# Altium schematic symbol library MyLibrary.SchLib: 320 symbols (part 4 of 7)
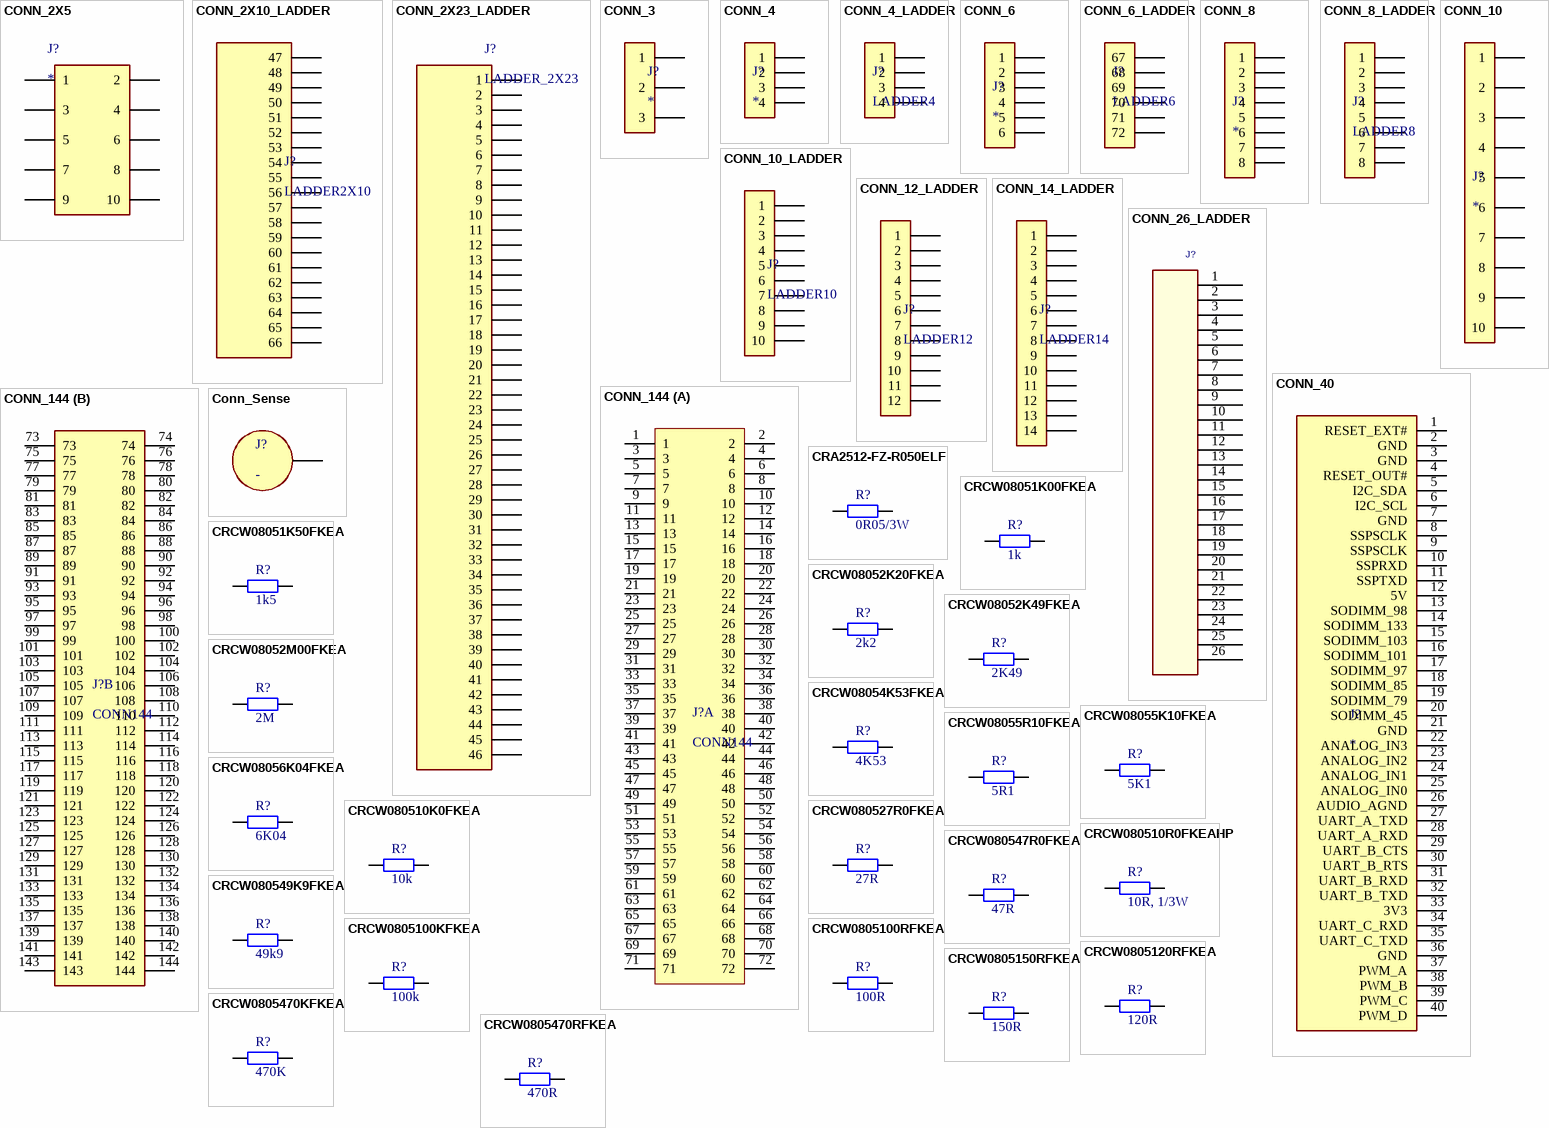
[diagram p11: symbols CONN_2X5 to CRCW0805470RFKEA]

## CRCW0805120RFKEA
designator R?, comment 120R
RES 120R 0805 0.125W 1%; Manufacturer: Vishay; Manufacturer Part Number: CRCW0805120RFKEA; Power Rating: 125mW; Voltage Rating: 150V; Temperature Coefficient: 100ppm/°C; Supplier 1: Farnell; Stock 1: 0; Pricing 1: 5000=0.0105 (CHF); Mount: Surface Mount; Package: RESC2012X60N; Weight: 0.000194oz; Case Code (Imperial): 0805; Case Code (Metric): 2012; Contact Plating: Tin; Min Operating Temperature: -55°C; Max Operating Temperature: 155°C; Resistance: 120R; Tolerance: 1%; Packaging: Tape and Reel; Package Quantity: 10; Composition: Thick Film; Number of Terminations: 2; Military Standard: Not; Termination: SMD/SMT; Max Power Dissipation: 125mW; Voltage Rating (DC): 150V; Features: Automotive AEC-Q200; Length: 2mm; Height: 0.45mm; Width: 1.25mm; Depth: 1.25mm; Radiation Hardening: No; REACH SVHC: Unknown; Lead Free: Lead Free; ComponentLink1URL: http://www.vishay.com/docs/20035/dcrcwe3.pdf; ComponentLink1Description: Datasheet; Supplier Part Number 1: 2123011; Type: SMD
footprint R0805
footprint RESC2012X05N (Chip Resistor, 2-Leads, Body 2.05x1.25mm, IPC Medium Density)
pins: 1, 2

## CRCW0805150RFKEA
designator R?, comment 150R
RES 150R 0805 0.125W 1%; Manufacturer: VISHAY; Manufacturer Part Number: CRCW0805150RFKEA; Resistance: 150; Resistor Case Style: 0805 [2012 Metric]; Power Rating: 125 mW; Product Range: CRCW Series; Resistor Element Material: Thick Film; Temperature Coefficient: ± 100; Automotive Qualification Standard: AEC-Q200; No. of Pins: 2; Resistor Mounting: Surface Mount Device<!--FANDB--><div class="features-and-benefits-container"><div class="features-and-benefits-description"><span class="features-benefits-value">The Vishay D/CRCW e3 series are standard thick film chip resistors. The resistance range includes E96 and E24 decade values from 1ohm to 10Mohm. CRCW e3 series resistors have a pure tin solder contacts on the Ni barrier layer that provides compatibility with reflow soldering process.</span></div><div class="features-and-benefits-list"><ul class="features-and-benefits-list-list"><li class="features-and-benefits-list-item">Automotive grade AEC-Q200 qualified</li><li class="features-and-benefits-list-item">EIA 0402, 0603, 0805, 1206, 1210, 1218, 2010, 2512 standard case sizes available</li><li class="features-and-benefits-list-item">Stability &Delta; .PCBChecked: BP; Supplier 1: Farnell; RoHS: Y-EX; Stock 1: 2559; Pricing 1: 10=0.0168, 100=0.0126, 500=0.0082, 1000=0.0072, 2500=0.0063 (GBP); Voltage Rating: 150; Resistance Tolerance: ± 1%; Packaging: Cut Tape; MSL: MSL 1 - Unlimited; Operating Temperature Max: 155; Operating Temperature Min: -55; Operating Temperature Range: -55°C to +155; ComponentLink1URL: http://www.farnell.com/datasheets/2111203.pdf; ComponentLink1Description: Datasheet; Supplier Part Number 1: 1469877; Category: Resistors; Package: RESC2012X60N; Type: SMD; .SCHChecked: BP; Tolerance: 1%
footprint R0805
footprint RESC2012X05N (Chip Resistor, 2-Leads, Body 2.05x1.25mm, IPC Medium Density)
pins: 1, 2

## CRCW0805470KFKEA
designator R?, comment 470K
RES 470K 0805 0.125W 1%; Manufacturer: Vishay; Manufacturer Part Number: CRCW0805470KFKEA; Resistance: 470kR; Power Rating: 125mW; Voltage Rating: 150V; Temperature Coefficient: 100ppm/°C; Supplier 1: Farnell; RoHS: Yes; Stock 1: 46753; Pricing 1: 10 = 0.20000, 100 = 0.15300, 500 = 0.11100, 1000 = 0.09160, 2500 = 0.07200 (DKK); Case/Package: 0805; Number of Pins: 2; Weight: 0.000194oz; Case Code (Metric): 2012; Case Code (Imperial): 0805; Contact Plating: Tin; Min Operating Temperature: -55°C; Max Operating Temperature: 155°C; Tolerance: 1%; Packaging: Tape and Reel; Package Quantity: 10; Composition: Thick Film; Number of Terminations: 2; Termination: SMD/SMT; Military Standard: Not; Max Power Dissipation: 125mW; Voltage Rating (DC): 150V; Features: Automotive AEC-Q200; Length: 2mm; Height: 0.45mm; Width: 0.049inch; Depth: 1.25mm; Radiation Hardening: No; REACH SVHC: Unknown; Lead Free: Lead Free; ComponentLink1URL: https://datasheet.ciiva.com/11809/0900766b80d98b26-11809163.pdf?src-supplier=RSComponents; ComponentLink1Description: Datasheet; Supplier Part Number 1: 1653006; Type: 470K; Package: RESC2012X60N
footprint R0805
footprint RESC2012X05N (Chip Resistor, 2-Leads, Body 2.05x1.25mm, IPC Medium Density)
pins: 1, 2

## CRCW0805470RFKEA
designator R?, comment 470R
RES 470R 0805 0.125W 1%; Manufacturer: VISHAY; Manufacturer Part Number: CRCW0805470RFKEA; Resistance: 470; Voltage Rating: 150; Resistor Case Style: 0805 [2012 Metric]; Power Rating: 125; Product Range: CRCW Series; Resistor Element Material: Thick Film; Temperature Coefficient: ± 100; Automotive Qualification Standard: AEC-Q200; Resistor Mounting: Surface Mount Device<!--FANDB--><div class="features-and-benefits-container"><div class="features-and-benefits-description"><span class="features-benefits-value">The Vishay D/CRCW e3 series are standard thick film chip resistors. The resistance range includes E96 and E24 decade values from 1ohm to 10Mohm. CRCW e3 series resistors have a pure tin solder contacts on the Ni barrier layer that provides compatibility with reflow soldering process.</span></div><div class="features-and-benefits-list"><ul class="features-and-benefits-list-list"><li class="features-and-benefits-list-item">Automotive grade AEC-Q200 qualified</li><li class="features-and-benefits-list-item">EIA 0402, 0603, 0805, 1206, 1210, 1218, 2010, 2512 standard case sizes available</li><li class="features-and-benefits-list-item">Stability &Delta; .PCBChecked: BP; Supplier 1: Farnell; RoHS: Y-EX; Stock 1: 24871; Pricing 1: 10=0.0223, 100=0.0123, 500=0.0092, 1000=0.007, 2500=0.0062 (GBP); Resistance Tolerance: ± 1%; Packaging: Cut Tape; MSL: MSL 1 - Unlimited; ComponentLink1URL: http://www.farnell.com/datasheets/2111203.pdf; ComponentLink1Description: Datasheet; Supplier Part Number 1: 1469932; Category: Resistors; Package: RESC2012X60N; Type: SMD; .SCHChecked: BP; Tolerance: 1%
footprint R0805
footprint RESC2012X05N (Chip Resistor, 2-Leads, Body 2.05x1.25mm, IPC Medium Density)
pins: 1, 2

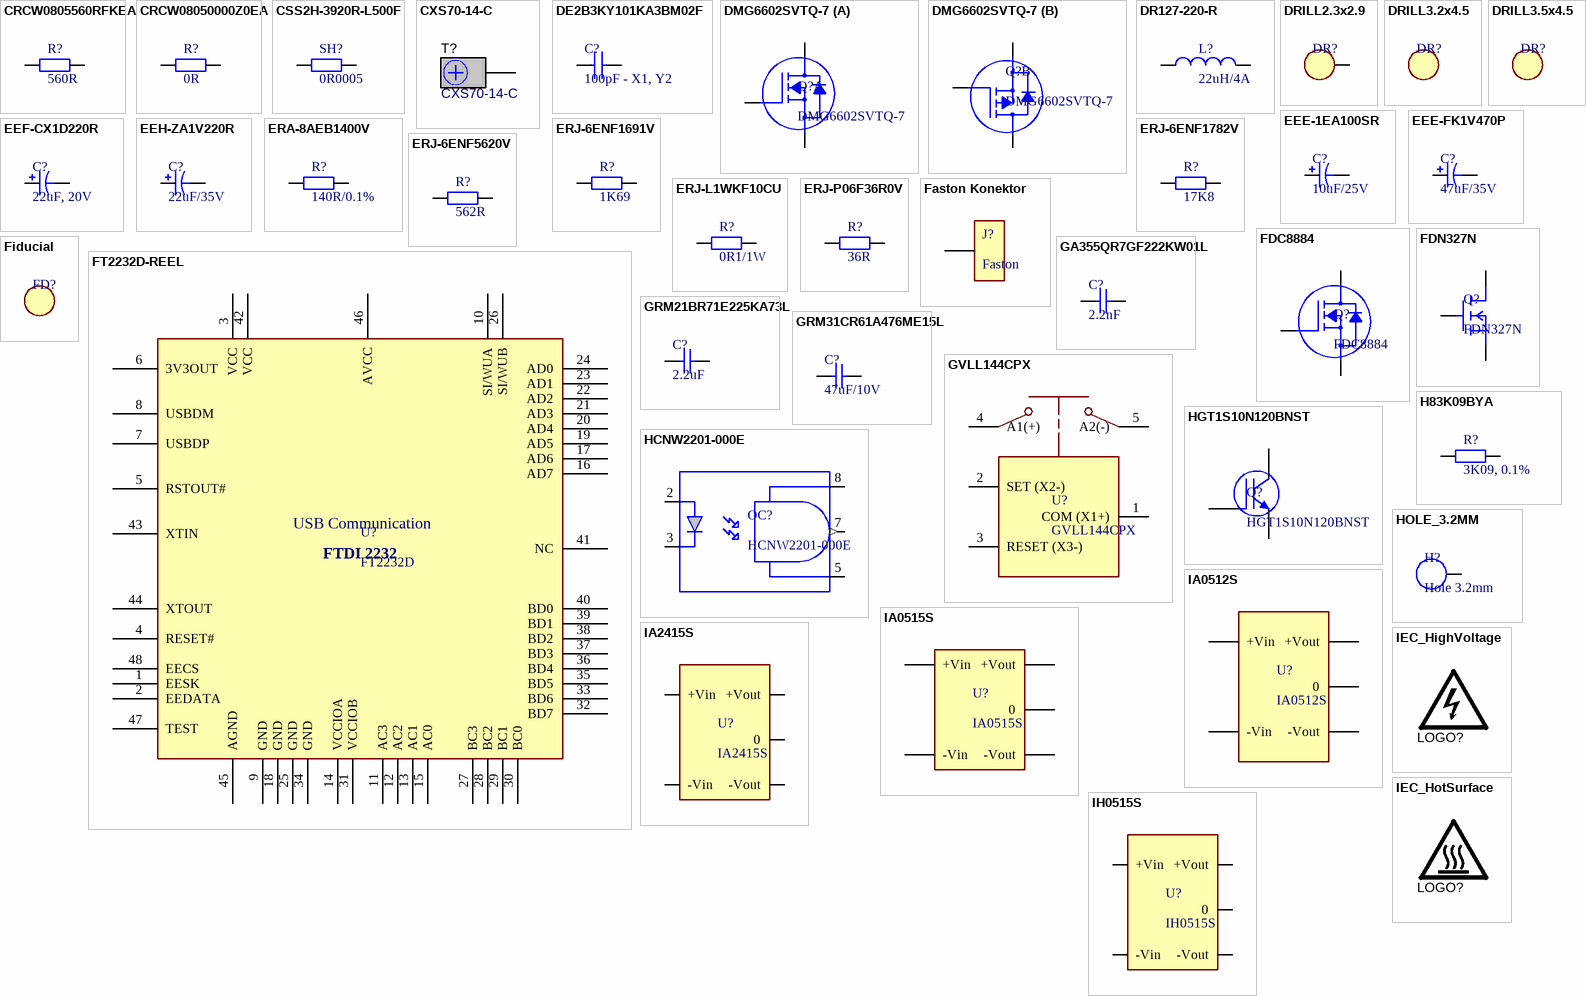
[diagram p4: symbols CRCW0805560RFKEA to IH0515S]

## CRCW0805560RFKEA
designator R?, comment 560R
RES 560R 0805 0.125W 1%; Manufacturer: Vishay; Manufacturer Part Number: CRCW0805560RFKEA; Temperature Coefficient: 100ppm/°C; Power Rating: 125mW; Voltage Rating: 150V; Supplier 1: Future Electronics; RoHS: Yes; Stock 1: 10000; Pricing 1: 5000 = 0.01060, 25000 = 0.00950, 70000 = 0.00900 (USD); Package: RESC2012X60N; Number of Pins: 2; Weight: 0.000194oz; Contact Plating: Tin; Case Code (Metric): 2012; Case Code (Imperial): 0805; Min Operating Temperature: -55°C; Max Operating Temperature: 155°C; Resistance: 560R; Tolerance: 1%; Composition: Thick Film; Termination: SMD/SMT; Packaging: Tape and Reel; Package Quantity: 10; Number of Terminations: 2; Military Standard: Not; Max Power Dissipation: 125mW; Voltage Rating (DC): 150V; Features: Automotive AEC-Q200; Length: 2mm; Height: 0.45mm; Width: 0.049inch; Depth: 1.25mm; Radiation Hardening: No; Lead Free: Lead Free; REACH SVHC: Unknown; ComponentLink2URL: http://www.vishay.com/docs/20035/dcrcwe3.pdf; ComponentLink2Description: Datasheet; Supplier Part Number 1: CRCW0805560RFKEA-REEL; Type: SMD
footprint R0805
footprint RESC2012X05N (Chip Resistor, 2-Leads, Body 2.05x1.25mm, IPC Medium Density)
pins: 1, 2

## CRCW08050000Z0EA
designator R?, comment 0R
RES 0R00 0805 0.125W; Manufacturer: Vishay Dale; Manufacturer Part Number: CRCW08050000Z0EA; Resistance (Ohms): 0.0; Tolerance: Jumper; Power (Watts): 0.125W, 1/8W; .PCBChecked: BP; RoHS: RoHS Compliant; Category: Resistors; Packaging: Cut Tape (CT); Part Status: Active; Composition: Thick Film; Features: Automotive AEC-Q200; Temperature Coefficient: -; Operating Temperature: -55°C ~ 155°C; Package: RESC2012X60N; Supplier Device Package: 0805; Size / Dimension: 0.079" L x 0.049" W (2.00mm x 1.25mm); Height - Seated (Max): 0.020" (0.50mm); Failure Rate: -; ComponentLink1URL: http://www.vishay.com/docs/20035/dcrcwe3.pdf; ComponentLink1Description: Datasheet; Supplier 1: Future Electronics; Supplier Part Number 1: CRCW08050000Z0EA; Type: SMD; .SCHChecked: BP
footprint R0805
footprint RESC2012X05N (Chip Resistor, 2-Leads, Body 2.05x1.25mm, IPC Medium Density)
pins: 1, 2

## CSS2H-3920R-L500F
designator SH?, comment 0R0005
RES 0R0005 3920 9W 1%; Manufacturer: Bourns; Manufacturer Part Number: CSS2H-3920R-L500F; Resistance (Ohms): 0.0005; Temperature Coefficient: 50ppm/°C; Category: Resistors; Family: Chip Resistor - Surface Mount; Series: CSS2H-3920; Packaging: Tape &amp; Reel (TR); Tolerance: ±1%; Power (Watts): 9W; Composition: Metal Element; Features: Current Sense, Moisture Resistant; Operating Temperature: -55°C ~ 170°C; Package: RESC1052X60N; Supplier Device Package: 3920; Size / Dimension: 0.394" L x 0.205" W (10.00mm x 5.20mm); Height: 0.037" (0.94mm); Number of Terminations: 2; ComponentLink1URL: http://www.farnell.com/datasheets/2058209.pdf; ComponentLink1Description: Datasheet; Supplier 1: Mouser; Supplier Part Number 1: 652-CSS2H3920RL500F; Type: SMD
footprint R3920
pins: 1, 2

## CXS70-14-C
designator T?
Terminal 70A Lug; Manufacturer: Panduit; SymbolCreator: crossc; CompType: Screw Terminal; U/M: EA; SymbolVersion: 2009-10-14; Manufacturer Part Number: CXS70-14-C; PackageReference: LUG, 32.3x14.5x11.7; RoHS: Y; MountType: TH; ComponentLink1Description: Datasheet Link; ComponentLink1URL: http://www.panduit.com/heiler/PartDrawings/C-PCCXS70-14-C--ENG.pdf; Publisher: Texas Instruments; LatestRevisionDate: 2014-11-22; Supplier 1: Digi-Key; Supplier Part Number 1: CXS70-14-C-ND; Supplier 2: Mouser; Supplier Part Number 2: 644-CXS70-14-C
footprint Panduit_CXS70-14-C
pins: 1

## DE2B3KY101KA3BM02F
designator C?, comment 100pF - X1, Y2
CAP 100PF RADIAL 250VAC X1 Y2; Manufacturer: Kemet; Manufacturer Part Number: C317C101K2G5TA7301; Tolerance: ±10%; Temperature Coefficient: B; Ratings: X1, Y2; Type: THT; RoHS: RoHS Compliant; Category: Capacitors; Packaging: Bulk; Part Status: Active; Capacitance: 100pF; Voltage - Rated: 250VAC; Operating Temperature: -40°C ~ 125°C; Features: High Voltage; Applications: Safety; Mounting Type: Through Hole; Package: Radial, Disc; Size / Dimension: 0.276" Dia (7.00mm); Height - Seated (Max): 0.394" (10.00mm); Thickness (Max): -; Lead Spacing: 0.295" (7.50mm); Lead Style: -; ComponentLink1URL: http://www.murata.com/~/media/webrenewal/support/library/catalog/products/capacitor/mlcc/c85e.ashx; ComponentLink1Description: Datasheet; Supplier 1: Mouser; Supplier Part Number 1: 81-DE2B3KY101KA3BM2F
footprint CAPRB750W60L700T500H700
pins: 1, 2

## DMG6602SVTQ-7
designator Q?
MOSFET N/P-CH 30V TSOT26; Manufacturer: Diodes; Continuous Drain Current (ID): 2.8A; Rds On Max: 60mR; Input Capacitance: 400pF; Max Power Dissipation: 840mW; FET Type: N and P-Channel; Type: SMD; Supplier 1: Mouser; Manufacturer Part Number: DMG6602SVTQ-7; RoHS: Yes; Stock 1: 125189; Pricing 1: 1 = 0.34000, 10 = 0.26600, 50 = 0.26600, 100 = 0.14400, 1000 = 0.10800, 10000 = 0.08700 (USD); Mount: Surface Mount; Case/Package: SOT-23-6; Min Operating Temperature: -55°C; Max Operating Temperature: 150°C; Packaging: Tape and Reel; Drain to Source Voltage (Vdss): 30V; ComponentLink1URL: http://www.mouser.com/ds/2/115/DMG6602SVTQ-536621.pdf?src-supplier=Mouser; ComponentLink1Description: Datasheet; Supplier Part Number 1: 621-DMG6602SVTQ-7; Package: SOT95P280X110-6N
footprint TSOT23-6 (SOT23, 6-Leads, Body 2.90x2.80mm, Pitch 0.95mm, IPC Medium Density)
part A pins: 1 G1, 5 S1, 6 D1
part B pins: 2 S2, 3 G2, 4 D2

## DR127-220-R
designator L?, comment 22uH/4A
IND 22UH 4A 39.1 MOHM SMD; Manufacturer: Eaton Cooper; Manufacturer Part Number: DR127-220-R; Core Material: Ferrite; Tolerance: 20%; Shielding: Shielded; Saturation Current: 7.57A; DC Resistance (DCR): 39.1mR; Test Frequency: 100kHz; Supplier 1: Mouser; RoHS: Yes; Stock 1: 3784; Pricing 1: 1 = 2.04000, 10 = 1.55000, 50 = 1.55000, 100 = 1.41000, 350 = 0.92300, 700 = 0.84200, 1000 = 0.84200, 2450 = 0.81400, 4900 = 0.78700, 9800 = 0.76000, 10000 = 0.76000, 24850 = 0.72200 (USD); Mount: Surface Mount; Case/Package: Nonstandard; Number of Pins: 2; Weight: 0.224oz; Min Operating Temperature: -40°C; Max Operating Temperature: 125°C; Packaging: Tape and Reel; Inductance Tolerance: 20%; Package Quantity: 350; Current Rating: 4A; Inductance: 22uH; Composition: Wirewound; Max DC Current: 7.57A; Termination: SMD/SMT; DC Current: 4A; Military Standard: Not; RMS Current (Irms): 4A; Self Resonant Frequency: 100kHz; Length: 12.5mm; Height: 8mm; Width: 0.492inch; Height - Seated (Max): 0.315inch; Depth: 12.5mm; Radiation Hardening: No; REACH SVHC: Unknown; Lead Free: Lead Free; ComponentLink2URL: https://datasheet.ciiva.com/26858/getdatasheetpartid-250064-26858411.pdf?src-supplier=Verical; ComponentLink2Description: Datasheet; Supplier Part Number 1: 704-DR127-220-R; Type: SMD; Package: INDP140125X80N
footprint IND_DR127
pins: 1, 2

## DRILL2.3x2.9
designator DR?, comment DRILL 2.3MM  (value not drawn)  (no BOM)
DRILL 2.3mm x 2.9mm; .PCBChecked: BP; Category: Drills; Type: THT; .SCHChecked: BP
footprint DRILL2.3X2.9
pins: 1

## DRILL3.2x4.5
designator DR?, comment DRILL 3.2MM  (value not drawn)  (no BOM)
DRILL 3.2mm X 4.5mm; .PCBChecked: BP; Category: Drills; Type: THT; .SCHChecked: BP
footprint DRILL3.2X4.5
pins: 1 hidden

## DRILL3.5x4.5
designator DR?, comment DRILL 3.5MM  (value not drawn)  (no BOM)
DRILL 3.5mm X 4.5mm; .PCBChecked: BP; Category: Drills; Type: THT; .SCHChecked: BP
footprint DRILL3.5X4.5
pins: 1 hidden

## EEE-1EA100SR
designator C?, comment 10uF/25V
CAP 10UF ELEC RAD 25V; Manufacturer: Panasonic Electronic Components; Manufacturer Part Number: EEE-1EA100SR; Capacitance: 10µF; Tolerance: ±20%; Lifetime @ Temp.: 2000 Hrs @ 85°C; Polarization: Polar; Ripple Current: 28mA @ 120Hz; Surface Mount Land Size: 0.209" L x 0.209" W (5.30mm x 5.30mm); Type: SMD; .PCBChecked: BP; RoHS: RoHS Compliant; Category: Capacitors; Packaging: Cut Tape (CT); Part Status: Active; Voltage Rating: 25V; ESR (Equivalent Series Resistance): -; Operating Temperature: -40°C ~ 85°C; Applications: General Purpose; Impedance: -; Lead Spacing: -; Size / Dimension: 0.197" Dia (5.00mm); Height - Seated (Max): 0.213" (5.40mm); Mounting Type: Surface Mount; Package: CAPAE530X610; ComponentLink1URL: https://industrial.panasonic.com/cdbs/www-data/pdf/RDE0000/ABA0000C1145.pdf; ComponentLink1Description: Datasheet; .SCHChecked: BP; Supplier 1: Avnet Abacus; Supplier Part Number 1: EEE1EA100SR
footprint CAPAED5.0x5.4 (Aluminum Electrolytic Capacitor, Body 5,30x5,30x5,50mm, IPC Low Density)
pins: 1, 2

## EEE-FK1V470P
designator C?, comment 47uF/35V
CAP 47UF ELEC RAD 35V; Manufacturer: Panasonic ECG; Manufacturer Part Number: EEE-FK1V470P; SVHC: To Be Advised; Product Range: PANASONIC - FK Series; Capacitance: 47µF; Capacitance Tolerance: ± 20%; Capacitor Case Style: Radial Can - SMD; Ripple Current AC: 240mA; Life Time @ Temperature: 2000 hours @ 105°C; External Length / Height: 5.4mm; Impedance: 0.36ohm; Operating Lifetime: 2000h; Power Factor: 0.12; Power Factor Frequency: 120Hz; Ripple Current Frequency: 100kHz; Ripple Current Temperature: 105°C; Tolerance +: 20%; Type: SMD; Supplier 1: Avnet Abacus; Stock 1: 50000; Pricing 1: 1000=0.0908, 5000=0.0733, 10000=0.0718 (EUR); Voltage Rating: 35V; Diameter: 6.3mm; Height: 5.4mm; Packaging: Cut Tape; Operating Temperature Min: -55°C; Operating Temperature Max: 105°C; MSL: (Not Available); Operating Temperature Range: -55°C to +105°C; Package: CAPAE660X610; Series: FK; Tolerance -: 20%; Voltage Rating V DC: 35V; AE Capacitor Case: Radial Can - SMD; Lifetime @ Temperature: 2000 hours @ 105°C; Capacitance Tolerance ±: ± 20%; Operating life Time: 2000h; ComponentLink1URL: https://datasheet.ciiva.com/34302/1358354-34302248.pdf; ComponentLink1Description: Datasheet; Supplier Part Number 1: EEEFK1V470P
footprint CAPAED6.3x5.4 (Aluminum Electrolytic Capacitor, Body 6.60x6.60x6.20mm, IPC Low Density)
pins: 1, 2

## EEF-CX1D220R
designator C?, comment 22uF, 20V
CAP 22UF ALUM POLY 20V; Manufacturer: Panasonic; Manufacturer Part Number: EEF-CX1D220R; Dielectric Material: Aluminium; ESR (Equivalent Series Resistance): 40mR; Polarity: Polar; Ripple Current: 3.2A; Leakage Current: 132uA; Tolerance: 20%; Life (Hours): 2000Hour; Type: SMD; Supplier 1: Mouser; RoHS: Yes; Pricing 1: 1 = 1.09000, 10 = 0.85600, 50 = 0.85600, 100 = 0.64200, 1000 = 0.37300, 10000 = 0.33500 (USD); Mount: Surface Mount; Case/Package: 2917; Case Code (Metric): 7343; Case Code (Imperial): 2917; Contact Plating: Tin; Min Operating Temperature: -55°C; Max Operating Temperature: 105°C; Package Quantity: 3500; Packaging: Tape and Reel; Capacitance: 22uF; Voltage Rating: 20V; Voltage: 20V; Termination: SMD/SMT; Length: 7.3mm; Height: 1.9mm; Width: 0.169inch; Height - Seated (Max): 0.075inch; Depth: 4.3mm; ComponentLink1URL: http://industrial.panasonic.com/cdbs/www-data/pdf/ABE0000/ABE0000C49.pdf?src-supplier=Digi-Key; ComponentLink1Description: Datasheet; Supplier Part Number 1: 667-EEF-CX1D220R; Package: CAPMP7343X19N
footprint CAPMP7343X19N (Molded Capacitor, 2-Leads, Body 7.30x4.30mm, IPC Medium Density)
pins: 1, 2

## EEH-ZA1V220R
designator C?, comment 22uF/35V
CAP 22UF ELEC RAD 35V; Manufacturer: Panasonic; Manufacturer Part Number: EEH-ZA1V220R; Material: Polymer; Tolerance: 20%; ESR (Equivalent Series Resistance): 100mR; Ripple Current: 900mA; Polarity: Polar; Life (Hours): 5000Hour; Leakage Current: 7.7uA; Lead Diameter: 0.65mm; Type: SMD; Supplier 1: Elfa; RoHS: Yes; Stock 1: 2376; Pricing 1: 1 = 1.46000, 10 = 1.15400, 100 = 0.86550, 500 = 0.65396 (USD); Mount: Surface Mount; Case/Package: Radial; Min Operating Temperature: -55°C; Max Operating Temperature: 105°C; Packaging: Tape and Reel; Capacitance: 22uF; Voltage Rating (DC): 35V; Package Quantity: 1000; Voltage Rating: 35V; Ripple Current (AC): 900mA; Termination: SMD/SMT; Voltage: 35V; Diameter: 5mm; Length: 5.8mm; Height: 5.8mm; Lead Pitch: 1.5mm; Height - Seated (Max): 0.24inch; Radiation Hardening: No; REACH SVHC: No SVHC; Lead Free: Lead Free; ComponentLink1URL: https://datasheet.ciiva.com/25613/0900766b81233638-25613623.pdf?src-supplier=RSComponents; ComponentLink1Description: Datasheet; Supplier Part Number 1: 110-49-839; Package: CAPAE530X610
footprint CAPAED5.0x5.4 (Aluminum Electrolytic Capacitor, Body 5,30x5,30x5,50mm, IPC Low Density)
pins: 1, 2

## ERA-8AEB1400V
designator R?, comment 140R/0.1%
RES 140R 1206 0.25W 0.1%; Manufacturer: Panasonic; Manufacturer Part Number: ERA-8AEB1400V; Voltage Rating: 150V; Power Rating: 250mW; Temperature Coefficient: 25ppm/°C; Supplier 1: RSComponents; Stock 1: 3100; Pricing 1: 500=0.265, 1000=0.236, 2500=0.19 (EUR); Mount: Surface Mount; Case/Package: 1206; Case Code (Metric): 3216; Case Code (Imperial): 1206; Contact Plating: Tin; Min Operating Temperature: -55°C; Max Operating Temperature: 155°C; Packaging: Tape and Reel; Resistance: 140R; Tolerance: 0.1%; Package Quantity: 1; Composition: Thin Film; Number of Terminations: 2; Termination: SMD/SMT; Max Power Dissipation: 250mW; Voltage Rating (DC): 150V; Length: 0.126inch; Height: 0.028inch; Width: 0.063inch; REACH SVHC: No SVHC; Lead Free: Lead Free; ComponentLink1URL: https://datasheet.ciiva.com/6104/1776116-6104966.pdf; ComponentLink1Description: Datasheet; Supplier Part Number 1: 905-3690; Type: SMD; Package: RESC3216X60N
footprint R1206
pins: 1, 2

## ERJ-6ENF1691V
designator R?, comment 1K69
RES 1K69 0805 0.125W; Manufacturer: Panasonic ECG; Manufacturer Part Number: ERJ-6ENF1691V; Tolerance: 1%; Resistance: 1.69kR; Voltage Rating: 150V; Power Rating: 125mW; Temperature Coefficient: 100ppm/°C; Supplier 1: Mouser; Stock 1: 30838; Pricing 1: 1=0.3, 10=0.043, 50=0.043, 100=0.024, 1000=0.015, 10000=0.011 (USD); Mount: Surface Mount; Case/Package: 0805; Case Code (Metric): 2012; Case Code (Imperial): 0805; Contact Plating: Tin; Min Operating Temperature: -55°C; Max Operating Temperature: 155°C; Packaging: Tape and Reel; Package Quantity: 1; Composition: Thick Film; Number of Terminations: 2; Military Standard: Not; Termination: SMD/SMT; Max Power Dissipation: 125mW; Voltage Rating (DC): 150V; Length: 2mm; Height: 0.6mm; Width: 0.049inch; Depth: 1.25mm; Radiation Hardening: No; REACH SVHC: No SVHC; Lead Free: Lead Free; ComponentLink1URL: https://datasheet.ciiva.com/9117/aoa0000ce2-9117432.pdf; ComponentLink1Description: Datasheet; Supplier Part Number 1: 667-ERJ-6ENF1691V; Type: SMD; Package: RESC2012X60N
footprint R0805
footprint RESC2012X05N (Chip Resistor, 2-Leads, Body 2.05x1.25mm, IPC Medium Density)
pins: 1, 2

## ERJ-6ENF1782V
designator R?, comment 17K8
RES 17K8 0805 0.125W; Manufacturer: Panasonic ECG; Manufacturer Part Number: ERJ-6ENF1782V; Resistance: 17.8kR; Power Rating: 125mW; Tolerance: 1%; Voltage Rating: 150V; Temperature Coefficient: 100ppm/°C; Supplier 1: Mouser; Stock 1: 29093; Pricing 1: 1=0.3, 10=0.043, 50=0.043, 100=0.024, 1000=0.015, 10000=0.011 (USD); Mount: Surface Mount; Case/Package: 0805; Case Code (Metric): 2012; Case Code (Imperial): 0805; Contact Plating: Tin; Min Operating Temperature: -55°C; Max Operating Temperature: 155°C; Packaging: Tape and Reel; Package Quantity: 1; Composition: Thick Film; Number of Terminations: 2; Termination: SMD/SMT; Military Standard: Not; Max Power Dissipation: 125mW; Voltage Rating (DC): 150V; Length: 2mm; Height: 0.6mm; Width: 0.049inch; Depth: 1.25mm; Radiation Hardening: No; REACH SVHC: Yes; Lead Free: Contains Lead; ComponentLink1URL: https://datasheet.ciiva.com/16765/70260748-16765484.pdf; ComponentLink1Description: Datasheet; Supplier Part Number 1: 667-ERJ-6ENF1782V; Type: SMD; Package: RESC2012X60N
footprint R0805
footprint RESC2012X05N (Chip Resistor, 2-Leads, Body 2.05x1.25mm, IPC Medium Density)
pins: 1, 2

## ERJ-6ENF5620V
designator R?, comment 562R
RES 562R 0805 0.125W; Manufacturer: Panasonic ECG; Manufacturer Part Number: ERJ-6ENF5620V; Power Rating: 125mW; Tolerance: 1%; Voltage Rating: 150V; Temperature Coefficient: 100ppm/°C; Supplier 1: Mouser; Stock 1: 30722; Pricing 1: 1=0.3, 10=0.043, 50=0.043, 100=0.024, 1000=0.015, 10000=0.011 (USD); Mount: Surface Mount; Case/Package: 0805; Case Code (Metric): 2012; Case Code (Imperial): 0805; Contact Plating: Tin; Min Operating Temperature: -55°C; Max Operating Temperature: 155°C; Resistance: 562R; Packaging: Tape and Reel; Package Quantity: 1; Composition: Thick Film; Number of Terminations: 2; Termination: SMD/SMT; Military Standard: Not; Max Power Dissipation: 125mW; Voltage Rating (DC): 150V; Length: 2mm; Height: 0.6mm; Width: 0.049inch; Depth: 1.25mm; Radiation Hardening: No; REACH SVHC: No SVHC; Lead Free: Lead Free; ComponentLink1URL: https://datasheet.ciiva.com/17204/aoa0000ce2-17204893.pdf; ComponentLink1Description: Datasheet; Supplier Part Number 1: 667-ERJ-6ENF5620V; Type: SMD; Package: RESC2012X60N
footprint R0805
footprint RESC2012X05N (Chip Resistor, 2-Leads, Body 2.05x1.25mm, IPC Medium Density)
pins: 1, 2

## ERJ-L1WKF10CU
designator R?, comment 0R1/1W
RES 0.1 OHM 1W 1% 2512; Manufacturer: Panasonic; Manufacturer Part Number: ERJ-L1WKF10CU; Resistance: 100mR; Temperature Coefficient: 100ppm/°C; Supplier 1: Farnell; RoHS: Yes; Stock 1: 9168; Pricing 1: 5 = 0.63000, 50 = 0.41100, 250 = 0.39000, 500 = 0.26300, 1500 = 0.26200, 3000 = 0.26100, 15000 = 0.26000 (GBP); Mount: Surface Mount; Case/Package: 2512; Number of Pins: 2; Case Code (Imperial): 2512; Case Code (Metric): 6432; Contact Plating: Tin; Min Operating Temperature: -55°C; Max Operating Temperature: 125°C; Power Rating: 1W; Tolerance: 1%; Packaging: Tape and Reel; Package Quantity: 3000; Composition: Thick Film; Termination: SMD/SMT; Number of Terminations: 2; Military Standard: Not; Max Power Dissipation: 1W; Length: 6.4mm; Height: 1.1mm; Width: 3.2mm; Depth: 3.2mm; Radiation Hardening: No; REACH SVHC: No SVHC; Lead Free: Lead Free; ComponentLink2URL: https://datasheet.ciiva.com/24070/aoa0000ce3-72189-24070565.pdf?src-supplier=Mouser; ComponentLink2Description: Datasheet; Supplier Part Number 1: 1577587; Package: RESC6432X60N
footprint R2512 (Chip Resistor, 2-Leads, Body 6.45x3.35mm, IPC Medium Density)
pins: 1, 2

## ERJ-P06F36R0V
designator R?, comment 36R
RES 36R 0805 0.5W; Manufacturer: Panasonic; Manufacturer Part Number: ERJ-P06F36R0V; Power Rating: 500mW; Tolerance: 1%; Voltage Rating: 150V; Temperature Coefficient: 100ppm/°C; Supplier 1: Farnell; RoHS: Yes; Pricing 1: 5000 = 0.02620 (GBP); Mount: Surface Mount; Case/Package: 0805; Number of Pins: 2; Case Code (Imperial): 0805; Case Code (Metric): 2012; Min Operating Temperature: -55°C; Max Operating Temperature: 155°C; Resistance: 36R; Packaging: Tape and Reel; Package Quantity: 5000; Termination: SMD/SMT; Voltage Rating (DC): 150V; Composition: Thick Film; Military Standard: Not; Length: 2mm; Height: 0.6mm; Width: 1.2mm; Depth: 1.25mm; REACH SVHC: No SVHC; ComponentLink1URL: https://datasheet.ciiva.com/11817/0900766b812cb812-11817199.pdf?src-supplier=RSComponents; ComponentLink1Description: Datasheet; Supplier Part Number 1: 1894165; Package: RESC2012X60N; Type: SMD
footprint R0805
footprint RESC2012X05N (Chip Resistor, 2-Leads, Body 2.05x1.25mm, IPC Medium Density)
pins: 1, 2

## Faston Konektor
designator J?, comment Faston
KONEKTOR FASTON OBICNI; Type: THT
footprint KONEKTOR-I-FASTON
pins: 1

## FDC8884
designator Q?
MOSFET N-CH 30V 6.5A; Manufacturer: ON Semiconductor / Fairchild; Rise Time: 1ns; Rds On Max: 23mR; Input Capacitance: 465pF; Max Power Dissipation: 800mW; Turn-On Delay Time: 5ns; Turn-Off Delay Time: 11ns; Element Configuration: Single; Gate to Source Voltage (Vgs): 20V; Type: SMD; Supplier 1: Mouser; Manufacturer Part Number: FDC8884; RoHS: Yes; Stock 1: 5083; Pricing 1: 1 = 0.43000, 10 = 0.36200, 50 = 0.36200, 100 = 0.22100, 1000 = 0.17100, 3000 = 0.14500, 9000 = 0.13600, 10000 = 0.13600, 24000 = 0.12800, 45000 = 0.12500, 99000 = 0.12100 (USD); Mount: Surface Mount; Case/Package: SOT-6; Number of Pins: 6; Weight: 0.036g; Min Operating Temperature: -55°C; Max Operating Temperature: 150°C; Package Quantity: 3000; Packaging: Tape and Reel; Drain to Source Voltage (Vdss): 30V; Continuous Drain Current (ID): 6.5A; Drain to Source Breakdown Voltage: 30V; Drain to Source Resistance: 23mR; Power Dissipation: 800mW; Fall Time: 1ns; Length: 3mm; Height: 1mm; Width: 1.7mm; Radiation Hardening: No; Lead Free: Lead Free; ComponentLink1URL: https://datasheet.ciiva.com/11175/fdc8884-11175249.pdf?src-supplier=Avnet; ComponentLink1Description: Datasheet; Supplier Part Number 1: 512-FDC8884; Package: SOT95P245X110-6N
footprint NMOS_SOT6 (SOT23, 6-Leads, Body 2.90x2.45mm, Pitch 0.95mm, IPC Medium Density)
pins: D, G, S

## FDN327N
designator Q?
MOSFET N-CH 20V SOT23; Manufacturer: Fairchild/ON Semiconductor; FET Type: N-Channel; Current - Continuous Drain (Id) @ 25°C: 2A (Ta); Drive Voltage (Max Rds On,  Min Rds On): 1.8V, 4.5V; Vgs(th) (Max) @ Id: 1.5V @ 250µA; Gate Charge (Qg) (Max) @ Vgs: 6.3nC @ 4.5V; Input Capacitance (Ciss) (Max) @ Vds: 423pF @ 10V; Vgs (Max): ±8V; Power Dissipation (Max): 500mW (Ta); Rds On (Max) @ Id, Vgs: 70 mOhm @ 2A, 4.5V; Type: SMD; .PCBChecked: BP; Manufacturer Part Number: FDN327N; RoHS: RoHS Compliant; Category: Discrete Semiconductor Products; Packaging: Cut Tape (CT); Part Status: Active; Technology: MOSFET (Metal Oxide); Drain to Source Voltage (Vdss): 20V; FET Feature: -; Operating Temperature: -55°C ~ 150°C (TJ); Mounting Type: Surface Mount; Supplier Device Package: SuperSOT-3; Package: SOT95P245X110-3N; ComponentLink1URL: https://www.mouser.com/datasheet/2/149/FDN327N-1007952.pdf; ComponentLink1Description: Datasheet; Supplier 1: Farnell; Supplier Part Number 1: 1471048; .SCHChecked: BP
footprint SOT23_GSD (SOT23, 3-Leads, Body 2,92x2,51mm, Pitch 0,95mm, IPC Medium Density)
pins: D, G, S

## Fiducial
designator FD?  (value not drawn)
footprint FIDUCIAL10-20

## FT2232D-REEL
designator U?, comment FT2232D
IC USB UART/FIFO LQFP48; Manufacturer: FTDI, Future Technology Devices International Ltd; Manufacturer Part Number: FT2232D-REEL; Function: Bridge, USB to UART; Interface: UART; Standards: USB 2.0; Voltage - Supply: 4.35 V ~ 5.25 V; Current - Supply: 30mA; Logic Type: Inverter; Number of Circuits: 1; Current - Quiescent (Max): 1µA; Current - Output High, Low: 8mA, 8mA; Logic Level - Low: 0.5 V ~ 1.65 V; Logic Level - High: 1.5 V ~ 3.85 V; Max Propagation Delay @ V, Max CL: 7.5ns @ 5V, 50pF; .PCBChecked: BP; Supplier 1: RS Components; RoHS: RoHS Compliant; Category: Integrated Circuits (ICs); Stock 1: 28410; Pricing 1: 1=6.99, 10=6.28, 50=5.59, 100=5.17, 250=4.81004, 500=4.50002 (USD); Packaging: Cut Tape (CT); Part Status: Active; Protocol: USB; Operating Temperature: -40°C ~ 85°C; Package: QFP50P900X900X160-48N; Supplier Device Package: 48-LQFP (7x7); ComponentLink1URL: http://www.ftdichip.com/Support/Documents/DataSheets/ICs/DS_FT2232D.pdf; ComponentLink1Description: Datasheet; Supplier Part Number 1: 406-578P; Number of Inputs: 1; Features: -; Mounting Type: Surface Mount; Type: FINE-PITCH; .SCHChecked: BP
footprint LQFP48 (LQFP, 48-Leads, Body 7,00x7,00mm, Pitch 0,50mm, IPC Medium Density)
pins: 1 EESK, 2 EEDATA, 3 VCC, 4 RESET#, 5 RSTOUT#, 6 3V3OUT, 7 USBDP, 8 USBDM, 9 GND, 10 SI/WUA, 11 AC3, 12 AC2, 13 AC1, 14 VCCIOA, 15 AC0, 16 AD7, 17 AD6, 18 GND, 19 AD5, 20 AD4, 21 AD3, 22 AD2, 23 AD1, 24 AD0, 25 GND, 26 SI/WUB, 27 BC3, 28 BC2, 29 BC1, 30 BC0, 31 VCCIOB, 32 BD7, 33 BD6, 34 GND, 35 BD5, 36 BD4, 37 BD3, 38 BD2, 39 BD1, 40 BD0, 41 NC, 42 VCC, 43 XTIN, 44 XTOUT, 45 AGND, 46 AVCC, 47 TEST, 48 EECS
text: USB Communication; FTDI 2232

## GA355QR7GF222KW01L
designator C?, comment 2.2nF
CAP 2.2NF 2220 250VAC; Manufacturer: Murata; Manufacturer Part Number: GA355QR7GF222KW01L; Tolerance: 10%; Dielectric: X7R; Voltage Rating: 250V; Type: SMD; Supplier 1: Avnet Europe; Stock 1: 0; Mount: Surface Mount; Case/Package: 2220; Case Code (Imperial): 2220; Case Code (Metric): 5750; Min Operating Temperature: -55°C; Max Operating Temperature: 125°C; Capacitance: 2.2nF; Packaging: Tape and Reel; Package Quantity: 1; Voltage Rating (AC): 250V; Termination: SMD/SMT; Voltage: 250V; Voltage Rating (DC): 250V; Length: 5.7mm; Height: 1.5mm; Depth: 5mm; Width: 0.197inch; Thickness: 0.059inch; Radiation Hardening: No; REACH SVHC: No SVHC; Lead Free: Lead Free; Supplier Part Number 1: GA355QR7GF222KW01L; Package: CAPC5750X180N
footprint C2220 (Chip Capacitor, 2-Leads, Body 5.70x5.00mm, IPC Medium Density)
pins: 1, 2 20

## GRM21BR71E225KA73L
designator C?, comment 2.2uF
CAP 2.2UF 0805 25V; Manufacturer: Murata; Manufacturer Part Number: GRM21BR71E225KA73L; Material: Ceramic; Tolerance: 10%; Dielectric: X7R; Type: SMD; Supplier 1: Mouser; Stock 1: 0; Mount: Surface Mount; Case/Package: 0805; Case Code (Metric): 2012; Case Code (Imperial): 0805; Min Operating Temperature: -55°C; Max Operating Temperature: 125°C; Package Quantity: 1; Capacitance: 2.2uF; Voltage Rating: 25V; Packaging: Tape and Reel; Voltage Rating (DC): 25V; Termination: SMD/SMT; Voltage: 25V; Length: 2mm; Height: 1.25mm; Width: 0.049inch; Thickness: 0.053inch; Depth: 1.25mm; Radiation Hardening: No; REACH SVHC: No SVHC; Lead Free: Lead Free; ComponentLink1URL: https://datasheet.ciiva.com/2989/product-2989728.pdf; ComponentLink1Description: Datasheet; Supplier Part Number 1: 81-GRM21BR71E225KA73; Package: CAPC2012X88N
footprint C0805
footprint CAPC2012X09N (Chip Capacitor, 2-Leads, Body 2.00x1.25mm, IPC Medium Density)
pins: 1, 2 20

## GRM31CR61A476ME15L
designator C?, comment 47uF/10V
CAP 47UF 1206 10V X5R; Manufacturer: Murata; Manufacturer Part Number: GRM31CR61A476ME15L; Tolerance: 20%; Type: SMD; Supplier 1: Mouser; RoHS: Yes; Stock 1: 77126; Pricing 1: 1 = 0.84000, 10 = 0.63700, 50 = 0.63700, 100 = 0.45500, 250 = 0.44400, 500 = 0.35200, 1000 = 0.30300, 2000 = 0.25500, 10000 = 0.25500 (USD); Mount: Surface Mount; Case/Package: 1206; Number of Pins: 2; Case Code (Metric): 3216; Case Code (Imperial): 1206; Min Operating Temperature: -55°C; Max Operating Temperature: 85°C; Capacitance: 47uF; Voltage Rating: 10V; Packaging: Tape and Reel; Package Quantity: 2000; Voltage Rating (DC): 10V; Dielectric: X5R; Termination: SMD/SMT; Voltage: 10V; Length: 3.2mm; Height: 1.6mm; Width: 1.6mm; Thickness: 0.071inch; Depth: 1.6mm; Radiation Hardening: No; REACH SVHC: No SVHC; Lead Free: Lead Free; ComponentLink1URL: https://datasheet.ciiva.com/6031/1697710-6031936.pdf?src-supplier=Farnell; ComponentLink1Description: Datasheet; Supplier Part Number 1: 81-GRM31CR61A476ME5L; Package: CAPC3216X100N
footprint CAPC3216X14N (Chip Capacitor, 2-Leads, Body 3.20x1.60mm, IPC Medium Density)
pins: 1, 2 20

## GVLL144CPX
designator U?
RELAY LATCHING 400+AMP 12-100V; Rated Voltage: 100V; Auxiliary Contacts: none; Mechanical Life: 1,000,000 cycles; Contact Resistance: 0.4mOhm; Set Time: 20ms; Open Time: 12ms; Insulation Resistance: 100MOhm; Coil Voltage Nominal: 24V; Type: THT; Package: PCB mount; ComponentLink1Description: Datasheet; ComponentLink1URL: https://www.gigavac.com/sites/default/files/catalog/spec_sheet/gvL140.pdf
footprint RELAY_GVLL144CPX
pins: 1 COM (X1+), 2 SET (X2-), 3 RESET (X3-), 4 A1(+), 5 A2(-)

## H83K09BYA
designator R?, comment 3K09, 0.1%
RES 3K09 AXIAL 0.25W; Manufacturer: TE Connectivity Holsworthy; Manufacturer Part Number: H83K09BYA; Power Rating: 250mW; Resistance: 3.09kR; Voltage Rating: 350V; Temperature Coefficient: 15ppm/°C; Number of Resistors: 1; Lead Diameter: 0.6mm; Lead Length: 30mm; Supplier 1: Farnell; Stock 1: 170; Pricing 1: 1=1.64, 10=0.996, 25=0.845, 50=0.743, 100=0.711, 250=0.536, 1250=0.517 (EUR); Package: Axial; Case/Package: Conformal; Number of Pins: 2; Weight: 0.008466oz; Min Operating Temperature: -55°C; Max Operating Temperature: 155°C; Package Quantity: 250; Tolerance: 0.1%; Composition: Thin Film; Termination: Axial; Packaging: Bulk; Voltage Rating (DC): 350V; Lead/Base Style: Axial; Number of Terminations: 2; Diameter: 2.5mm; Length: 7.2mm; REACH SVHC: No SVHC; ELV: Compliant; ComponentLink1URL: https://datasheet.ciiva.com/7799/1497270-7799846.pdf; ComponentLink1Description: Datasheet; Supplier Part Number 1: 1751495; Type: THT
footprint RESAD1020W60L680D127B
pins: 1, 2

## HCNW2201-000E
designator OC?
OPTOCOUPLER 5KV 8DIP-W PUSH PULL; Manufacturer: Broadcom Limited; Number of Channels: 1; Inputs - Side 1/Side 2: 1/0; Voltage - Isolation: 5000Vrms; Common Mode Transient Immunity (Min): 1kV/µs; Input Type: DC; Output Type: Push-Pull, Totem Pole; Current - Output / Channel: 25mA; Data Rate: 5MBd; Propagation Delay tpLH / tpHL (Max): 180ns, 160ns (Typ); Rise / Fall Time (Typ): 30ns, 7ns; Voltage - Forward (Vf) (Typ): 1.5V; Current - DC Forward (If) (Max): 10mA; Voltage - Supply: 4.5 V ~ 20 V; Supplier 1: EBV Elektronik; Manufacturer Part Number: HCNW2201-000E; RoHS: RoHS Compliant; Category: Isolators; Stock 1: 0; Pricing 1: 1974=1.7157 (USD); Packaging: Tube; Part Status: Active; Operating Temperature: -40°C ~ 85°C; Mounting Type: Through Hole; Package: 8-DIP (0.400", 10.16mm); Supplier Device Package: 8-DIP; ComponentLink1URL: https://docs.broadcom.com/docs/AV02-0674EN; ComponentLink1Description: Datasheet; Supplier Part Number 1: HCNW2201-000E; Type: THT
footprint DIP8W
pins: 2, 3, 5, 7 (out), 8

## HGT1S10N120BNST
designator Q?
IGBT 1200V 35A 298W TO263AB; Manufacturer: ON Semiconductor / Fairchild; Collector Emitter Voltage (VCEO): 1.2kV; Collector Emitter Saturation Voltage: 2.7V; Element Configuration: Single; Continuous Collector Current: 55A; Type: SMD; Supplier 1: Digi-Key; Manufacturer Part Number: HGT1S10N120BNST; Stock 1: 585; Pricing 1: 1=3.79, 10=3.404, 100=2.7891 (USD); Mount: Surface Mount; Package: D2PAK; Number of Pins: 3; Weight: 1.31247g; Min Operating Temperature: -55°C; Max Operating Temperature: 150°C; Package Quantity: 1; Packaging: Tape and Reel; Max Collector Current: 35A; Max Power Dissipation: 298W; Collector Emitter Breakdown Voltage: 1.2kV; Max Breakdown Voltage: 1.2kV; Power Dissipation: 298W; Voltage Rating (DC): 1.2kV; Current Rating: 35A; Length: 10.67mm; Height: 4.83mm; Width: 9.65mm; Radiation Hardening: No; REACH SVHC: No SVHC; Lead Free: Lead Free; ComponentLink1URL: http://www.fairchildsemi.com/datasheets/HG/HGT1S10N120BNS.pdf; ComponentLink1Description: Datasheet; Supplier Part Number 1: HGT1S10N120BNSTDKR-ND
pins: C, E, G

## HOLE_3.2MM
designator H?, comment Hole 3.2mm
Type: THT
footprint HOLE_3.2MM
pins: 1

## IA0512S
designator U?
DC/DC 5V +/-12V SIP5 1W; Manufacturer: XP Power; DC / DC Converter Output Type: Fixed; No. of Outputs: 2 Output; Input Voltage DC Min: 4.5V; Input Voltage DC Max: 5.5V; Output Voltage - Output 1: 12V; Output Voltage - Output 2: -12V; Output Current - Output 1: 42mA; DC / DC Converter Type: SIP; DC / DC Converter Mounting: Through Hole; Product Range: IA Series; SVHC: To Be Advised; Supplier 1: Farnell; Manufacturer Part Number: IA0512S; Stock 1: 341; Pricing 1: 1=4.24, 5=4.11, 10=3.99 (EUR); Output Power Max: 1W; Output Current - Output 2: 42mA; Approvals & Standards: -; Width: 6.09mm; Height: 10.16mm; Depth: 19.3mm; Output Voltage - Output 3: -; Output Current - Output 3: -; ComponentLink1URL: https://datasheet.ciiva.com/29378/sf-ia-29378232.pdf; ComponentLink1Description: Datasheet; Supplier Part Number 1: 8727503; Type: THT; Case: SIP5
footprint SIP5
pins: 0, +Vin, +Vout, -Vin, -Vout

## IA0515S
designator U?
DC/DC 5V +/-15V SIP5 1W; Manufacturer: XP Power; Number of Outputs: 2; Nominal Output Voltage: -15V; Max Output Current: 33mA; Min Input Voltage: 4.5V; Max Input Voltage: 5.5V; Efficiency: 80%; Voltage - Output 1: 15V; Isolation Voltage: 1kV; Supplier 1: Digi-Key; Manufacturer Part Number: IA0515S; RoHS: Yes; Stock 1: 1183; Pricing 1: 1 = 4.25000, 5 = 4.12200, 10 = 3.99500, 25 = 3.82520, 100 = 3.57000 (USD); Mount: Through Hole; Case/Package: SIP5; Min Operating Temperature: -40°C; Max Operating Temperature: 85°C; Package Quantity: 25; Packaging: Rail/Tube; Max Input Voltage (DC): 5.5V; Min Input Voltage (DC): 4.5V; Voltage - Output 2: -15V; Max Output Power: 1W; Current - Output 1: 33mA; Current - Output 2: 33mA; Output Power: 1W; Max Power Dissipation: 1W; Length: 0.76inch; Height: 10.16mm; Width: 6.09mm; Depth: 19.3mm; REACH SVHC: Unknown; ComponentLink1URL: https://datasheet.ciiva.com/29378/sf-ia-29378230.pdf?src-supplier=Digi-Key; ComponentLink1Description: Datasheet; Supplier Part Number 1: 1470-1351-5-ND; Type: THT
footprint SIP5
pins: 0, +Vin, +Vout, -Vin, -Vout

## IA2415S
designator U?
DC/DC 24V 15V SIP5 1W; Manufacturer: XP Power; Number of Outputs: 2; Nominal Output Voltage: -15V; Max Output Current: 33mA; Max Input Voltage: 26.4V; Min Input Voltage: 21.6V; Efficiency: 78%; Isolation Voltage: 1kV; Supplier 1: Digi-Key; Manufacturer Part Number: IA2415S; Stock 1: 246; Pricing 1: 1=4.25, 5=4.122, 10=3.995, 25=3.8252, 100=3.57, 500=3.315 (USD); Mount: Through Hole,PCB; Min Operating Temperature: -40°C; Max Operating Temperature: 85°C; Package Quantity: 25; Packaging: Rail/Tube; Min Input Voltage (DC): 21.6V; Max Input Voltage (DC): 26.4V; Voltage - Output 1: 15V; Voltage - Output 2: -15V; Max Output Power: 1W; Current - Output 1: 33mA; Current - Output 2: 33mA; Output Power: 1W; Max Power Dissipation: 1W; Length: 0.76inch; Height: 10.16mm; Width: 6.09mm; Depth: 19.3mm; REACH SVHC: Unknown; ComponentLink1URL: https://datasheet.ciiva.com/29378/sf-ia-29378239.pdf; ComponentLink1Description: Datasheet; Supplier Part Number 1: 1470-1374-5-ND; Type: THT; Case: SIP5
footprint SIP5
pins: 0, +Vin, +Vout, -Vin, -Vout

## IEC_HighVoltage
designator LOGO?, comment DANGER HIGH VOLTAGE  (value not drawn)  (no BOM)
IEC 61010-1 High Voltage Warning; SymbolCreator: a0412235; SymbolVersion: 2011-08-22; Published: 2009-03-03; Publisher: Texas Instruments; LatestRevisionDate: 2016-03-21
footprint IEC_HighVoltage_Small

## IEC_HotSurface
designator LOGO?, comment CAUTION HOT SURFACE  (value not drawn)  (no BOM)
IEC 61010-1 Hot Surface Warning; SymbolCreator: a0412235; SymbolVersion: 2011-08-22; Published: 2009-03-03; Publisher: Texas Instruments; LatestRevisionDate: 2016-03-21
footprint IEC_HotSurface_Small

## IH0515S
designator U?
DC/DC 5V +/-15V SIP5 2W; Manufacturer: XP Power; Voltage - Output 1: 15V; Voltage - Output 2: -15V; Isolation Voltage: 1kV; Current - Output 1: 66mA; Min Input Voltage (DC): 4.5V; Max Input Voltage (DC): 5.5V; Number of Outputs: 2; Efficiency: 80%; Supplier 1: Digi-Key; Manufacturer Part Number: IH0515S; RoHS: Yes; Category: Board Mount Modules; Stock 1: 878; Pricing 1: 1=6.25000, 5=6.06200, 10=5.87500, 25=5.62520, 100=5.25000 (USD); Mount: Through Hole,PCB; Case/Package: SIL; Min Operating Temperature: -40°C; Max Operating Temperature: 85°C; Output Power: 2W; Max Output Power: 2W; Current - Output 2: 66mA; Max Power Dissipation: 2W; Min Input Voltage: 4.5V; Max Input Voltage: 5.5V; Max Output Current: 66mA; Output Voltage: 15V; Package Quantity: 25; Packaging: Rail/Tube; Nominal Output Voltage: -15V; Output Current: 66mA; Power Rating: 2W; Operating Supply Voltage: 5V; Length: 0.77inch; Height: 10.16mm; Depth: 19.5mm; Width: 7.2mm; REACH SVHC: No SVHC; ComponentLink1URL: https://datasheet.ciiva.com/1286/sf-ih-1286121.pdf?src-supplier=Element14; ComponentLink1Description: Datasheet; Supplier Part Number 1: 1470-1444-5-ND; Type: THT
footprint SIP5
pins: 0, +Vin, +Vout, -Vin, -Vout

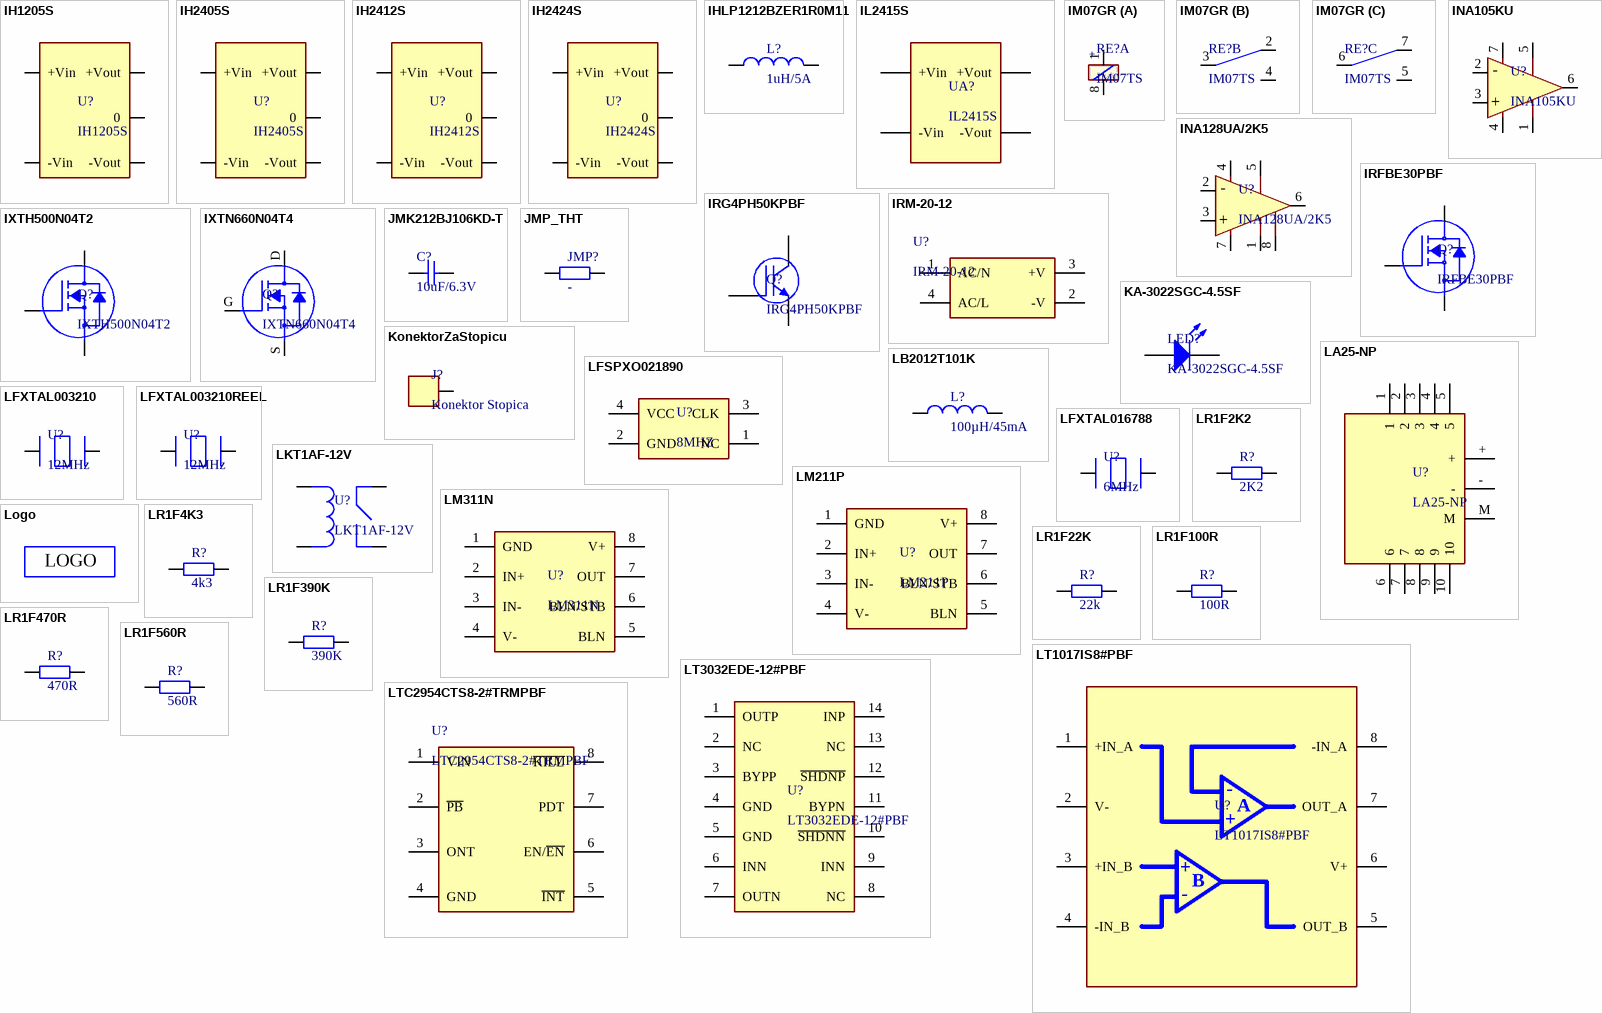
[diagram p5: symbols IH1205S to LTC2954CTS8-2#TRMPBF]

## IH1205S
designator U?
DC/DC 12V +/-5V SIP5 2W; Manufacturer: XP Power; Voltage - Output 1: 5V; Voltage - Output 2: -5V; Isolation Voltage: 1kV; Current - Output 1: 200mA; Min Input Voltage (DC): 10.8V; Max Input Voltage: 13.2V; Number of Outputs: 2; Efficiency: 75%; Supplier 1: Digi-Key; Manufacturer Part Number: IH1205S; Stock 1: 76; Pricing 1: 1=6.25000, 5=6.06200, 10=5.87500, 25=5.62520, 100=5.25000 (USD); RoHS: Yes; Mount: Through Hole,PCB; Case/Package: SIP; Min Operating Temperature: -40°C; Max Operating Temperature: 85°C; Max Power Dissipation: 2W; Max Output Power: 2W; Current - Output 2: 200mA; Output Power: 2W; Max Output Current: 200mA; Min Input Voltage: 10.8V; Output Voltage: 5V; Max Input Voltage (DC): 13.2V; Package Quantity: 25; Packaging: Rail/Tube; Nominal Output Voltage: -5V; Output Current: 200mA; Power Rating: 2W; Operating Supply Voltage: 12V; Length: 0.77inch; Height: 10.16mm; Depth: 19.5mm; Width: 7.2mm; REACH SVHC: No SVHC; ComponentLink1URL: https://datasheet.ciiva.com/1286/sf-ih-1286126.pdf?src-supplier=Element14; ComponentLink1Description: Datasheet; Supplier Part Number 1: 1470-1448-5-ND; Type: THT
footprint SIP5
pins: 0, +Vin, +Vout, -Vin, -Vout

## IH2405S
designator U?
DC/DC 24V +/-5V SIP5 2W; Manufacturer: XP Power; Number of Outputs: 2; Efficiency: 75%; Min Input Voltage: 21.6V; Max Input Voltage: 26.4V; Max Output Current: 200mA; Voltage - Output 1: 5V; Voltage - Output 2: -5V; Isolation Voltage: 1kV; Supplier 1: Digi-Key; Manufacturer Part Number: IH2405S; Stock 1: 359; Pricing 1: 1=6.25, 5=6.062, 10=5.875, 25=5.6252, 100=5.25 (USD); Mount: PCB,Through Hole; Case/Package: SIP; Min Operating Temperature: -40°C; Max Operating Temperature: 85°C; Package Quantity: 25; Packaging: Rail/Tube; Min Input Voltage (DC): 21.6V; Max Input Voltage (DC): 26.4V; Output Power: 2W; Max Output Power: 2W; Current - Output 1: 200mA; Current - Output 2: 200mA; Max Power Dissipation: 2W; Length: 0.77inch; Height: 0.4inch; Width: 0.28inch; Depth: 19.5mm; REACH SVHC: Unknown; ComponentLink1URL: http://www.farnell.com/datasheets/1897338.pdf; ComponentLink1Description: Datasheet; Supplier Part Number 1: 1470-1457-5-ND; Type: THT; Package: SIP5
footprint SIP5
pins: 0, +Vin, +Vout, -Vin, -Vout

## IH2412S
designator U?
DC/DC 24V +/-12V SIP5 2W; Manufacturer: XP Power; Number of Outputs: 2; Efficiency: 82%; Min Input Voltage: 21.6V; Max Input Voltage: 26.4V; Max Output Current: 84mA; Output Voltage: 12V; Voltage - Output 2: -12V; Isolation Voltage: 1kV; Supplier 1: Digi-Key; Manufacturer Part Number: IH2412S; Stock 1: 24; Pricing 1: 1=6.25, 5=6.062, 10=5.875, 25=5.6252, 100=5.25 (USD); Mount: PCB,Through Hole; Case/Package: SIL; Min Operating Temperature: -40°C; Max Operating Temperature: 85°C; Package Quantity: 25; Packaging: Rail/Tube; Min Input Voltage (DC): 21.6V; Max Input Voltage (DC): 26.4V; Voltage - Output 1: 12V; Output Power: 2W; Max Output Power: 2W; Current - Output 1: 84mA; Current - Output 2: 84mA; Max Power Dissipation: 2W; Nominal Output Voltage: -12V; Output Current: 84mA; Power Rating: 2W; Operating Supply Voltage: 24V; Length: 0.77inch; Height: 0.4inch; Width: 0.28inch; Depth: 19.5mm; REACH SVHC: Unknown; ComponentLink2URL: http://www.xppower.com/pdfs/SF_IH.pdf; ComponentLink2Description: Datasheet; Supplier Part Number 1: 1470-1460-5-ND; Type: THT; Package: SIP5
footprint SIP5
pins: 0, +Vin, +Vout, -Vin, -Vout

## IH2424S
designator U?
DC/DC 24V 24V SIP5 2W; Manufacturer: XP Power; Number of Outputs: 2; Voltage - Input (Min): 21.6V; Voltage - Input (Max): 26.4V; Voltage - Output 2: -24V; Current - Output (Max): 42mA, 42mA; Voltage - Isolation: 1kV (1000V); Efficiency: 82%; Supplier 1: XP POWER; Manufacturer Part Number: IH2424S; RoHS: RoHS Compliant; Category: Power Supplies - Board Mount; Stock 1: 0; Pricing 1: 20=5.875 (USD); Packaging: Tube; Part Status: Active; Type: THT; Voltage - Output 1: 24V; Voltage - Output 3: -; Power (Watts): 2W; Applications: ITE (Commercial); Features: -; Operating Temperature: -40°C ~ 85°C; Mounting Type: Through Hole; Package: SIP5; Size / Dimension: 0.77" L x 0.28" W x 0.40" H (19.5mm x 7.2mm x 10.2mm); ComponentLink1URL: http://www.xppower.com/Portals/0/pdfs/SF_IH.pdf; ComponentLink1Description: Datasheet; Supplier Part Number 1: IH2424S
footprint SIP5
pins: 0, +Vin, +Vout, -Vin, -Vout

## IHLP1212BZER1R0M11
designator L?, comment 1uH/5A
IND 1UH 5A 24mOhm; Manufacturer: Vishay Dale; Manufacturer Part Number: IHLP1212BZER1R0M11; Core Material: Metal,Composite; Self Resonant Frequency: 75MHz; Shielding: Shielded; Saturation Current: 4.5A; Tolerance: 20%; DC Resistance (DCR): 24mR; Test Frequency: 100kHz; Type: SMD; Supplier 1: RSComponents; Stock 1: 55; RoHS: Yes; Mount: Surface Mount; Case/Package: 1212; Number of Pins: 2; Case Code (Metric): 3630; Case Code (Imperial): 1212; Contact Plating: Tin; Min Operating Temperature: -55°C; Max Operating Temperature: 125°C; Packaging: Tape and Reel; Package Quantity: 3000; Current Rating: 5A; Inductance Tolerance: 20%; Inductance: 1uH; Max DC Current: 5A; RMS Current (Irms): 5A; Military Standard: Not; Length: 3.6mm; Height: 2mm; Width: 0.118inch; Height - Seated (Max): 0.079inch; Depth: 3.2mm; Radiation Hardening: No; REACH SVHC: Unknown; Lead Free: Lead Free; ComponentLink1URL: https://datasheet.ciiva.com/26821/getdatasheetpartid-180380-26821417.pdf?src-supplier=Verical; ComponentLink1Description: Datasheet; Supplier Part Number 1: 7486690; Termination: SMD/SMT; Package: INDC3030X200N
footprint I1212 (INDPM3630X200N)
pins: 1, 2

## IL2415S
designator UA?
DC/DC 24V 15V SIP4 2W; Manufacturer: XP Power; Dynamic Catalog: IL Series; Number of Outputs: 1; Voltage - Input (Min): 21.6V; Voltage - Input (Max): 26.4V; Current - Output (Max): 132mA; Voltage - Isolation: 1kV (1000V); Efficiency: 84%; Other Names: 1470-1491-5; Supplier 1: Digi-Key; Manufacturer Part Number: IL2415S; Stock 1: 284; Pricing 1: 1=7, 5=6.79, 10=6.58, 25=6.3, 100=5.88, 500=5.46 (USD); Standard Package: 42; Category: Power Supplies - Board Mount; Family: DC DC Converters; Series: IL; Packaging: Tube; Type: THT; Voltage - Output 1: 15V; Power (Watts) - Manufacture Series: 2W; Mounting Type: Through Hole; Package: SIP4; Size / Dimension: 0.46" L x 0.30" W x 0.40" H (11.7mm x 7.5mm x 10.2mm); Operating Temperature: -40°C ~ 85°C; Power (Watts) - Max: 2W; Online Catalog: IL Series; ComponentLink1URL: https://datasheet.ciiva.com/29377/sf-il-29377784.pdf; ComponentLink1Description: Datasheet; Supplier Part Number 1: 1470-1491-5-ND
footprint SIP4
pins: +Vin, +Vout, -Vin, -Vout

## IM07GR
designator RE?, comment IM07TS
RELAY TELECOM DPDT 2A 24V; Manufacturer: TE Connectivity Potter & Brumfield Relays; Coil Type: Non Latching; Coil Voltage: 24VDC; Contact Form: DPDT (2 Form C); Switching Voltage: 250VAC, 220VDC - Max; Turn On Voltage (Max): 18 VDC; Turn Off Voltage (Min): 2.4 VDC; Coil Power: 200 mW; Coil Resistance: 2.88 kOhms; Manufacturer Part Number: IM07TS; RoHS: RoHS Compliant; Category: Relays; Packaging: Cut Tape (CT); Part Status: Active; Relay Type: Telecom; Features: Sealed - Hermetically; Mounting Type: Surface Mount; Termination Style: Gull Wing; Contact Material: Palladium (Pd), Ruthenium (Ru), Gold (Au); Operating Temperature: -40°C ~ 85°C; ComponentLink1URL: http://www.te.com/commerce/DocumentDelivery/DDEController?Action=srchrtrv&DocNm=108-98001&DocType=SS&DocLang=EN; ComponentLink1Description: Datasheet; Type: THT; Supplier 1: RSComponents; Supplier Part Number 1: 515-509
footprint RELEJ IMO7
part A pins: 1, 8
part B pins: 2, 3, 4
part C pins: 5, 6, 7
part A text: +